# EAGLE library part SI8600 (library rca-silicon-labs)
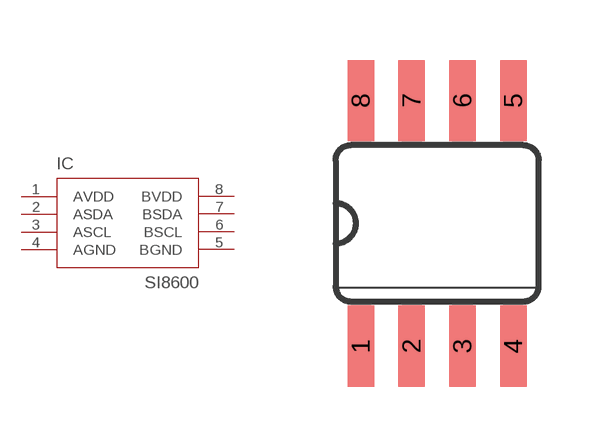
[diagram p0: symbol with the pads of SO08; footprint SO08]

Designator prefix IC

## SI8600  [SO08]
1  AVDD
2  ASDA
3  ASCL
4  AGND
5  BGND
6  BSCL
7  BSDA
8  BVDD

## Footprint SO08 (pad centres in mm)
smd 0.66 x 2.032: 1 -1.905,-3.073; 2 -0.635,-3.073; 3 0.635,-3.073; 4 1.905,-3.073; 5 1.905,3.073; 6 0.635,3.073; 7 -0.635,3.073; 8 -1.905,3.073